# Altium schematic symbol library SCH - ARM CORTEX - ST STM32F070X6 48PIN.SCHLIB: 1 symbol
Pins are listed as number, name and electrical type; pins without a type are passive.

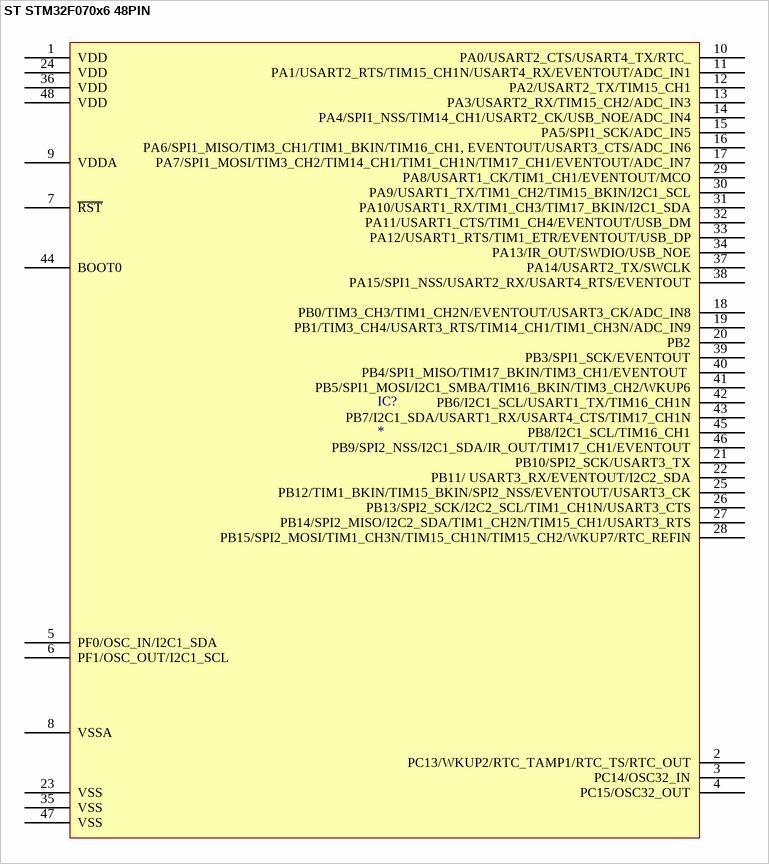
[diagram p0: symbol ST STM32F070x6 48PIN]

## ST STM32F070x6 48PIN
designator IC?
pins: 1 VDD, 2 PC13/WKUP2/RTC_TAMP1/RTC_TS/RTC_OUT, 3 PC14/OSC32_IN, 4 PC15/OSC32_OUT, 5 PF0/OSC_IN/I2C1_SDA, 6 PF1/OSC_OUT/I2C1_SCL, 7 ~{RST}, 8 VSSA, 9 VDDA, 10 PA0/USART2_CTS/USART4_TX/RTC_, 11 PA1/USART2_RTS/TIM15_CH1N/USART4_RX/EVENTOUT/ADC_IN1, 12 PA2/USART2_TX/TIM15_CH1, 13 PA3/USART2_RX/TIM15_CH2/ADC_IN3, 14 PA4/SPI1_NSS/TIM14_CH1/USART2_CK/USB_NOE/ADC_IN4, 15 PA5/SPI1_SCK/ADC_IN5, 16 PA6/SPI1_MISO/TIM3_CH1/TIM1_BKIN/TIM16_CH1, EVENTOUT/USART3_CTS/ADC_IN6, 17 PA7/SPI1_MOSI/TIM3_CH2/TIM14_CH1/TIM1_CH1N/TIM17_CH1/EVENTOUT/ADC_IN7, 18 PB0/TIM3_CH3/TIM1_CH2N/EVENTOUT/USART3_CK/ADC_IN8, 19 PB1/TIM3_CH4/USART3_RTS/TIM14_CH1/TIM1_CH3N/ADC_IN9, 20 PB2, 21 PB10/SPI2_SCK/USART3_TX, 22 PB11/ USART3_RX/EVENTOUT/I2C2_SDA, 23 VSS, 24 VDD, 25 PB12/TIM1_BKIN/TIM15_BKIN/SPI2_NSS/EVENTOUT/USART3_CK, 26 PB13/SPI2_SCK/I2C2_SCL/TIM1_CH1N/USART3_CTS, 27 PB14/SPI2_MISO/I2C2_SDA/TIM1_CH2N/TIM15_CH1/USART3_RTS, 28 PB15/SPI2_MOSI/TIM1_CH3N/TIM15_CH1N/TIM15_CH2/WKUP7/RTC_REFIN, 29 PA8/USART1_CK/TIM1_CH1/EVENTOUT/MCO, 30 PA9/USART1_TX/TIM1_CH2/TIM15_BKIN/I2C1_SCL, 31 PA10/USART1_RX/TIM1_CH3/TIM17_BKIN/I2C1_SDA, 32 PA11/USART1_CTS/TIM1_CH4/EVENTOUT/USB_DM, 33 PA12/USART1_RTS/TIM1_ETR/EVENTOUT/USB_DP, 34 PA13/IR_OUT/SWDIO/USB_NOE, 35 VSS, 36 VDD, 37 PA14/USART2_TX/SWCLK, 38 PA15/SPI1_NSS/USART2_RX/USART4_RTS/EVENTOUT, 39 PB3/SPI1_SCK/EVENTOUT, 40 PB4/SPI1_MISO/TIM17_BKIN/TIM3_CH1/EVENTOUT , 41 PB5/SPI1_MOSI/I2C1_SMBA/TIM16_BKIN/TIM3_CH2/WKUP6, 42 PB6/I2C1_SCL/USART1_TX/TIM16_CH1N, 43 PB7/I2C1_SDA/USART1_RX/USART4_CTS/TIM17_CH1N, 44 BOOT0, 45 PB8/I2C1_SCL/TIM16_CH1, 46 PB9/SPI2_NSS/I2C1_SDA/IR_OUT/TIM17_CH1/EVENTOUT, 47 VSS, 48 VDD